# Altium schematic symbol library N BJT.SchLib: 1 symbol
Pins are listed as number, name and electrical type; pins without a type are passive.

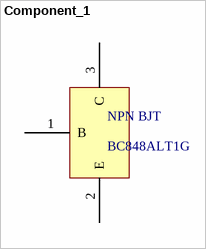
[diagram p0: symbol Component_1]

## Component_1
designator NPN BJT, comment BC848ALT1G
Bipolar Transistors - BJT 100mA 30V NPN
pins: 1 B, 2 E, 3 C